# Altium footprint library ST SPWF01SC.21.PCBLIB: 1 footprints
Each footprint in its own frame and in the unit in brackets; x right, y up, seen from the top. Pads: shape width x height; smd on the part's side, far side on the other; paste and mask are expansions set on the pad; w line width, h text height; cw(c..) or ccw(c..) is an arc to the next point about the centre after c.
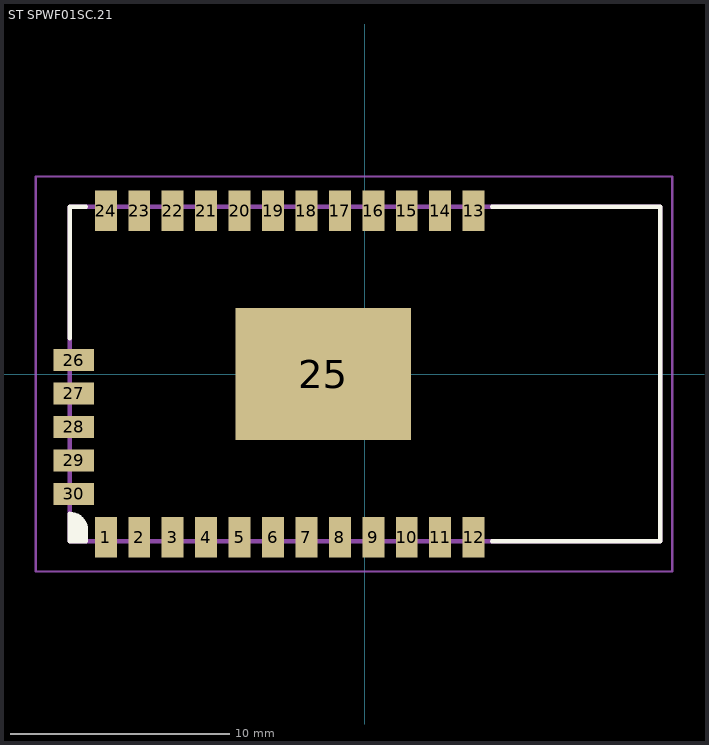
[diagram p0: the footprint, top view; thin cyan lines are the x and y axes]

## ST SPWF01SC.21 [mm] "Serial to WiFi b/g/n intelligent modules"
height 2.35
pads (30):
  rect 1x1.85 smd: 1(-11.811,-7.435) 2(-10.287,-7.435) 3(-8.763,-7.435) 4(-7.239,-7.435) 5(-5.715,-7.435) 6(-4.191,-7.435) 7(-2.667,-7.435) 8(-1.143,-7.435) 9(0.381,-7.435) 10(1.905,-7.435) 11(3.429,-7.435) 12(4.953,-7.435) 13(4.953,7.435) 14(3.429,7.435) 15(1.905,7.435) 16(0.381,7.435) 17(-1.143,7.435) 18(-2.667,7.435) 19(-4.191,7.435) 20(-5.715,7.435) 21(-7.239,7.435) 22(-8.763,7.435) 23(-10.287,7.435) 24(-11.811,7.435)
  rect 8x6 smd: 25(-1.911,0)
  rect 1.85x1 smd: 26(-13.277,0.636) 27(-13.277,-0.888) 28(-13.277,-2.412) 29(-13.277,-3.936) 30(-13.277,-5.46)
Top Overlay:
  region: -13.462,-7.62 -13.462,-6.37 -13.13,-6.37 -12.712,-6.788 -12.712,-7.62
  lines w0.2: -13.462,1.63 -13.462,7.62 -12.712,7.62 ; 5.788,-7.62 13.462,-7.62 13.462,7.62 5.788,7.62 ; -13.462,-7.62 -12.712,-7.62 -12.712,-7.12 ccw(c-13.462,-7.12) -13.462,-6.37 -13.462,-7.62
Mechanical 1:
  lines w0.2: -13.462,-7.62 13.462,-7.62 13.462,7.62 -13.462,7.62 -13.462,-7.62
Mechanical 15:
  lines w0.1: -1,0 1,0 ; 0,-1 0,1 ; -15,-9 -15,9 14,9 14,-9 -15,-9
3D body "SPWF01SC.21.STEP": height 2.6, standoff -0.03, extent -13.462,-7.62 13.462,7.62